# EAGLE library part 610X0821821 (library Board-to-Board (rev18a))
WR-PHD 2.54mm SMT Socket Header=>Code : Con_BTB_SHD_2.54_1_SMT_610x0421821(packageing:x = 0: Tube x = 3: Tape & Reel with Cap; 600 pcs/Reel) <http://katalog.we-online.de/media/images/eican/Con_BTB_SHD_2.54_1_SMT_6100xx21821_pf2.jpg> 6100xx21821 Details see: http://katalog.we-online.de/en/em/PHD_2_54_SMT_DUAL_SOCKET_HEADER_6100XX21821 6103xx21821 Details see: http://katalog.we-online.de/en/em/PHD_2_54_SMT_DUAL_SOCKET_HEADER_REEL_6103XX21821 2014 (C) Würth Elektronik
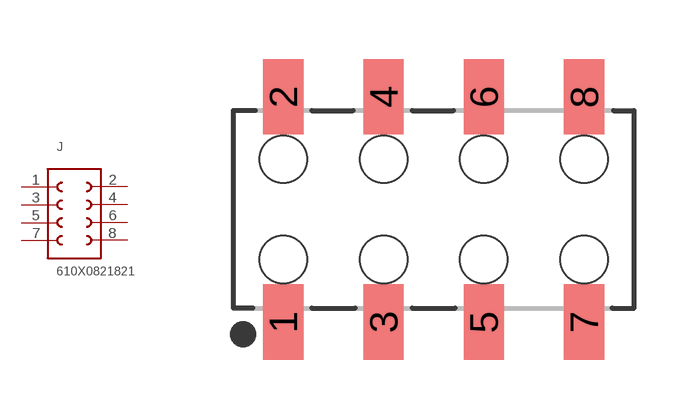
[diagram p202: symbol with the pads of 610X0821821; footprint 610X0821821]

Designator prefix J

## 610X0821821  [610X0821821]
1  1  pas
2  8  pas
3  2  pas
4  7  pas
5  3  pas
6  6  pas
7  4  pas
8  5  pas

## Footprint 610X0821821 (pad centres in mm)
WR-PHD 2.54mm Dual SMT Socket Header, 8 Pins
smd 1.02 x 1.9: 1 -3.81,-2.85; 2 -3.81,2.85; 3 -1.27,-2.85; 4 -1.27,2.85; 5 1.27,-2.85; 6 1.27,2.85; 7 3.81,-2.85; 8 3.81,2.85
hole 1.2 at -3.81,-1.27
hole 1.2 at -3.81,1.27
hole 1.2 at -1.27,-1.27
hole 1.2 at -1.27,1.27
hole 1.2 at 1.27,1.27
hole 1.2 at 1.27,-1.27
hole 1.2 at 3.81,-1.27
hole 1.2 at 3.81,1.27